# Altium integrated library TI Interface Display.IntLib: 133 symbols (part 2 of 16)
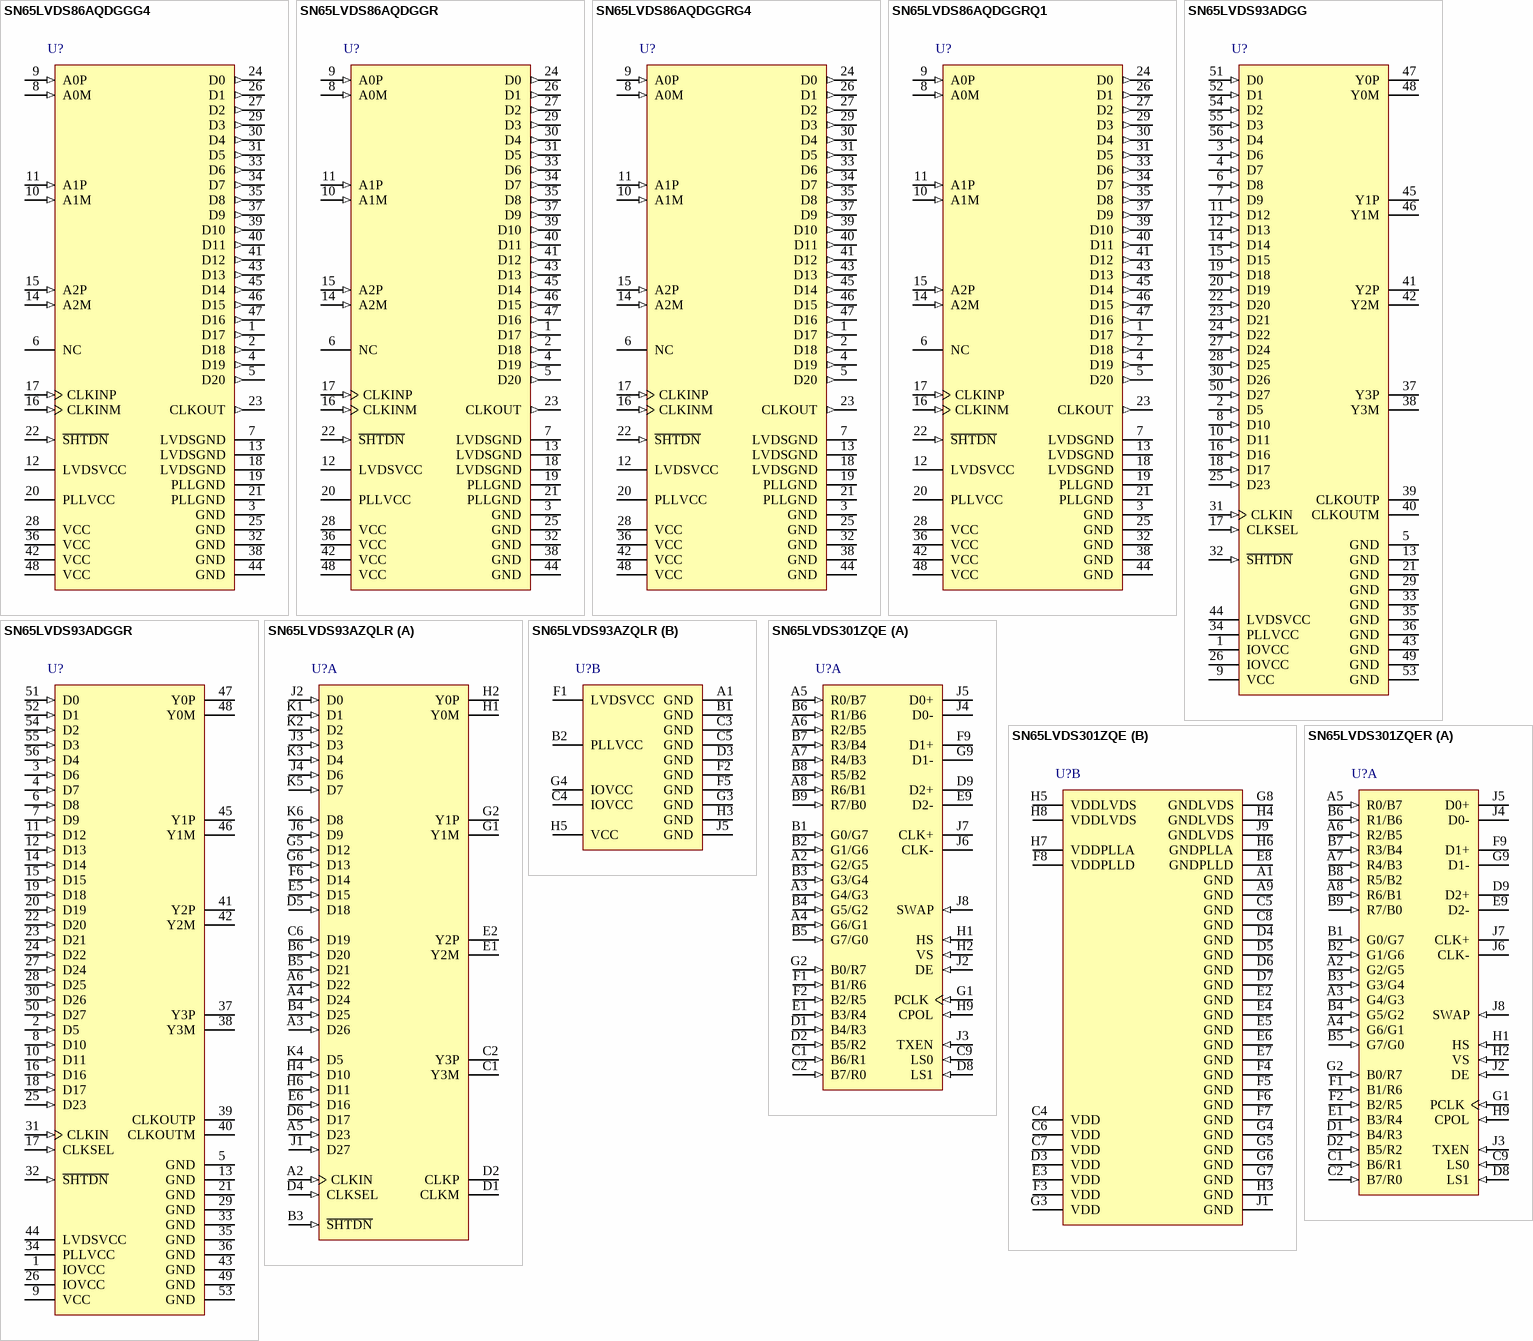
[diagram p15: symbols SN65LVDS86AQDGGG4 to SN65LVDS301ZQER]

## SN65LVDS93ADGG
designator U?
10 - 135 MHz LVDS Serdes Transmitter with 4 Transmitter Channels, 3.3 V, -40 to +85 degC, 56-pin TSSOP (DGG), Green (RoHS & no Sb/Br); Manufacturer: Texas Instruments; PartNumber: SN65LVDS93ADGG; Driver (RL)(Ohms): 100; Driver tpd(ns): 14.2; Number of Parallel Inputs: 28; PLL Frequency(MHz): 10 - 135; Serial Data Transmitter Channels: 4; SubFamily: FlatLink (LVDS for LCD); Supply Voltage(s)(V): 3.3; DatasheetVersion: SLLS992A; PackageVersion: revF, Dec-1997; PackageReference: DGG56; PackageDescription: 56-Pin Plastic Small Outline 0.5 mm Pitch; Supplier 1: Digi-Key; Supplier Part Number 1: 296-25108-5-ND; Supplier 2: Mouser; Supplier Part Number 2: 595-SN65LVDS93ADGG; Eco-Plan: Green (RoHS & no Sb/Br); Type of Line Circuit: LVDS; Mounting Technology: Surface Mount; Code_JEDEC: MO-153; ComponentLink1Description: Datasheet; ComponentLink1URL: http://www.ti.com/general/docs/lit/getliterature.tsp?genericPartNumber=SN65LVDS93A&fileType=pdf; ComponentLink2Description: URL Link1; ComponentLink2URL: SamplesURL:http://www.ti.com/product/sn65lvds93a#samples
footprint DGG56_N (TSSOP, 56-Leads, Body 14x6.1mm, Pitch 0.5mm, IPC Medium Density)
footprint DGG56_L (TSSOP, 56-Leads, Body 14x6.1mm, Pitch 0.5mm, IPC High Density)
footprint DGG56_M (TSSOP, 56-Leads, Body 14x6.1mm, Pitch 0.5mm, IPC Low Density)
pins: 1 IOVCC (power) "I/O supply reference voltage (1.8V up to 3.3V matching the GPU data output signal swing)", 2 D5 (in) "Data inputs; supports 1.8V to 3.3V input voltage selectable by VDD supply. To connect a graphic source successfully to a display,the bit assignment of D[27:0] is critical (and not necessarily intuitive). note:if application (See Datasheet)", 3 D6 (in) "Data inputs; supports 1.8V to 3.3V input voltage selectable by VDD supply. To connect a graphic source successfully to a display,the bit assignment of D[27:0] is critical (and not necessarily intuitive). note:if application (See Datasheet)", 4 D7 (in) "Data inputs; supports 1.8V to 3.3V input voltage selectable by VDD supply. To connect a graphic source successfully to a display,the bit assignment of D[27:0] is critical (and not necessarily intuitive). note:if application (See Datasheet)", 5 GND (power) "Supply Ground for VCC, IOVCC, LVDSVCC, and PLLVCC.", 6 D8 (in) "Data inputs; supports 1.8V to 3.3V input voltage selectable by VDD supply. To connect a graphic source successfully to a display,the bit assignment of D[27:0] is critical (and not necessarily intuitive). note:if application (See Datasheet)", 7 D9 (in) "Data inputs; supports 1.8V to 3.3V input voltage selectable by VDD supply. To connect a graphic source successfully to a display,the bit assignment of D[27:0] is critical (and not necessarily intuitive). note:if application (See Datasheet)", 8 D10 (in) "Data inputs; supports 1.8V to 3.3V input voltage selectable by VDD supply. To connect a graphic source successfully to a display,the bit assignment of D[27:0] is critical (and not necessarily intuitive). note:if application (See Datasheet)", 9 VCC (power) "3.3V digital Supply Voltage", 10 D11 (in) "Data inputs; supports 1.8V to 3.3V input voltage selectable by VDD supply. To connect a graphic source successfully to a display,the bit assignment of D[27:0] is critical (and not necessarily intuitive). note:if application (See Datasheet)", 11 D12 (in) "Data inputs; supports 1.8V to 3.3V input voltage selectable by VDD supply. To connect a graphic source successfully to a display,the bit assignment of D[27:0] is critical (and not necessarily intuitive). note:if application (See Datasheet)", 12 D13 (in) "Data inputs; supports 1.8V to 3.3V input voltage selectable by VDD supply. To connect a graphic source successfully to a display,the bit assignment of D[27:0] is critical (and not necessarily intuitive). note:if application (See Datasheet)", 13 GND (power) "Supply Ground for VCC, IOVCC, LVDSVCC, and PLLVCC", 14 D14 (in) "Data inputs; supports 1.8V to 3.3V input voltage selectable by VDD supply. To connect a graphic source successfully to a display,the bit assignment of D[27:0] is critical (and not necessarily intuitive). note:if application (See Datasheet)", 15 D15 (in) "Data inputs; supports 1.8V to 3.3V input voltage selectable by VDD supply. To connect a graphic source successfully to a display,the bit assignment of D[27:0] is critical (and not necessarily intuitive). note:if application (See Datasheet)", 16 D16 (in) "Data inputs; supports 1.8V to 3.3V input voltage selectable by VDD supply. To connect a graphic source successfully to a display,the bit assignment of D[27:0] is critical (and not necessarily intuitive). note:if application (See Datasheet)", 17 CLKSEL (in) "Selects between rising edge input clock trigger (CLKSEL = VIH) and falling edge input clock trigger(CLKSEL=VIL).", 18 D17 (in) "Data inputs; supports 1.8V to 3.3V input voltage selectable by VDD supply. To connect a graphic source successfully to a display,the bit assignment of D[27:0] is critical (and not necessarily intuitive). note:if application (See Datasheet)", 19 D18 (in) "Data inputs; supports 1.8V to 3.3V input voltage selectable by VDD supply. To connect a graphic source successfully to a display,the bit assignment of D[27:0] is critical (and not necessarily intuitive). note:if application (See Datasheet)", 20 D19 (in) "Data inputs; supports 1.8V to 3.3V input voltage selectable by VDD supply. To connect a graphic source successfully to a display,the bit assignment of D[27:0] is critical (and not necessarily intuitive). note:if application (See Datasheet)", 21 GND (power) "Supply Ground for VCC, IOVCC, LVDSVCC, and PLLVCC.", 22 D20 (in) "Data inputs; supports 1.8V to 3.3V input voltage selectable by VDD supply. To connect a graphic source successfully to a display,the bit assignment of D[27:0] is critical (and not necessarily intuitive). note:if application (See Datasheet)", 23 D21 (in) "Data inputs; supports 1.8V to 3.3V input voltage selectable by VDD supply. To connect a graphic source successfully to a display,the bit assignment of D[27:0] is critical (and not necessarily intuitive). note:if application (See Datasheet)", 24 D22 (in) "Data inputs; supports 1.8V to 3.3V input voltage selectable by VDD supply. To connect a graphic source successfully to a display,the bit assignment of D[27:0] is critical (and not necessarily intuitive). note:if application (See Datasheet)", 25 D23 (in) "Data inputs; supports 1.8V to 3.3V input voltage selectable by VDD supply. To connect a graphic source successfully to a display,the bit assignment of D[27:0] is critical (and not necessarily intuitive). note:if application (See Datasheet)", 26 IOVCC (power) "I/O supply reference voltage (1.8V up to 3.3V matching the GPU data output signal swing)", 27 D24 (in) "Data inputs; supports 1.8V to 3.3V input voltage selectable by VDD supply. To connect a graphic source successfully to a display,the bit assignment of D[27:0] is critical (and not necessarily intuitive). note:if application (See Datasheet)", 28 D25 (in) "Data inputs; supports 1.8V to 3.3V input voltage selectable by VDD supply. To connect a graphic source successfully to a display,the bit assignment of D[27:0] is critical (and not necessarily intuitive). note:if application (See Datasheet)", 29 GND (power) "Supply Ground for VCC, IOVCC, LVDSVCC, and PLLVCC.", 30 D26 (in) "Data inputs; supports 1.8V to 3.3V input voltage selectable by VDD supply. To connect a graphic source successfully to a display,the bit assignment of D[27:0] is critical (and not necessarily intuitive). note:if application (See Datasheet)", 31 CLKIN (in) "Input pixel clock; rising or falling clock polarity is selectable by Control input CLKSEL.", 32 ~{SHTDN} (in) "Device shut down;pull  low (de-assert) to shut down the device (low power, resets all registers) and high (assert)for normal operation.", 33 GND (power) "Supply Ground for VCC, IOVCC, LVDSVCC, and PLLVCC.", 34 PLLVCC (power) "3.3V PLL analog supply", 35 GND (power) "Supply Ground for VCC, IOVCC, LVDSVCC, and PLLVCC", 36 GND (power) "Supply Ground for VCC, IOVCC, LVDSVCC, and PLLVCC", 37 Y3P (hiz) "Differential LVDS Data outputs.Output is high-impedance when S\H\T\D\N\ is pulled low (de-asserted).  Note: if the application only requires 18-bit color, this output can be left open.", 38 Y3M (hiz) "Differential LVDS Data outputs.Output is high-impedance when S\H\T\D\N\ is pulled low (de-asserted).  Note: if the application only requires 18-bit color, this output can be left open.", 39 CLKOUTP (hiz) "Differential LVDS pixel clock output.Output is high-impedance when S\H\T\D\N is pulled low (de-asserted)", 40 CLKOUTM (hiz) "Differential LVDS pixel clock output.Output is high-impedance when S\H\T\D\N is pulled low (de-asserted)", 41 Y2P (hiz) "Differential LVDS data outputs.Outputs are high-impedance when S\H\T\D\N\ is pulled low (de-asserted)", 42 Y2M (hiz) "Differential LVDS data outputs.Outputs are high-impedance when S\H\T\D\N\ is pulled low (de-asserted)", 43 GND (power) "Supply Ground for VCC, IOVCC, LVDSVCC, and PLLVCC.", 44 LVDSVCC (power) "3.3V LVDS output analog supply", 45 Y1P (hiz) "Differential LVDS data outputs.Outputs are high-impedance when S\H\T\D\N\ is pulled low (de-asserted)", 46 Y1M (hiz) "Differential LVDS data outputs.Outputs are high-impedance when S\H\T\D\N\ is pulled low (de-asserted)", 47 Y0P (hiz) "Differential LVDS data outputs.Outputs are high-impedance when S\H\T\D\N\ is pulled low (de-asserted)", 48 Y0M (hiz) "Differential LVDS data outputs.Outputs are high-impedance when S\H\T\D\N\ is pulled low (de-asserted)", 49 GND (power) "Supply Ground for VCC, IOVCC, LVDSVCC, and PLLVCC.", 50 D27 (in) "Data inputs; supports 1.8V to 3.3V input voltage selectable by VDD supply. To connect a graphic source successfully to a display,the bit assignment of D[27:0] is critical (and not necessarily intuitive). note:if application (See Datasheet)", 51 D0 (in) "Data inputs; supports 1.8V to 3.3V input voltage selectable by VDD supply. To connect a graphic source successfully to a display,the bit assignment of D[27:0] is critical (and not necessarily intuitive). note:if application (See Datasheet)", 52 D1 (in) "Data inputs; supports 1.8V to 3.3V input voltage selectable by VDD supply. To connect a graphic source successfully to a display,the bit assignment of D[27:0] is critical (and not necessarily intuitive). note:if application (See Datasheet)", 53 GND (power) "Supply Ground for VCC, IOVCC, LVDSVCC, and PLLVCC.", 54 D2 (in) "Data inputs; supports 1.8V to 3.3V input voltage selectable by VDD supply. To connect a graphic source successfully to a display,the bit assignment of D[27:0] is critical (and not necessarily intuitive). note:if application (See Datasheet)", 55 D3 (in) "Data inputs; supports 1.8V to 3.3V input voltage selectable by VDD supply. To connect a graphic source successfully to a display,the bit assignment of D[27:0] is critical (and not necessarily intuitive). note:if application (See Datasheet)", 56 D4 (in) "Data inputs; supports 1.8V to 3.3V input voltage selectable by VDD supply. To connect a graphic source successfully to a display,the bit assignment of D[27:0] is critical (and not necessarily intuitive). note:if application (See Datasheet)"

## SN65LVDS93ADGGR
designator U?
10 - 135 MHz LVDS Serdes Transmitter with 4 Transmitter Channels, 3.3 V, -40 to +85 degC, 56-pin TSSOP (DGG), Green (RoHS & no Sb/Br); Manufacturer: Texas Instruments; PartNumber: SN65LVDS93ADGGR; Driver (RL)(Ohms): 100; Driver tpd(ns): 14.2; Number of Parallel Inputs: 28; PLL Frequency(MHz): 10 - 135; Serial Data Transmitter Channels: 4; SubFamily: FlatLink (LVDS for LCD); Supply Voltage(s)(V): 3.3; DatasheetVersion: SLLS992A; PackageVersion: revF, Dec-1997; PackageReference: DGG56; PackageDescription: 56-Pin Plastic Small Outline 0.5 mm Pitch; Supplier 1: Digi-Key; Supplier Part Number 1: SN65LVDS93ADGGR-ND; Supplier 2: Mouser; Supplier Part Number 2: 595-SN65LVDS93ADGGR; Eco-Plan: Green (RoHS & no Sb/Br); Type of Line Circuit: LVDS; Mounting Technology: Surface Mount; Code_JEDEC: MO-153; ComponentLink1Description: Datasheet; ComponentLink1URL: http://www.ti.com/general/docs/lit/getliterature.tsp?genericPartNumber=SN65LVDS93A&fileType=pdf; ComponentLink2Description: URL Link1; ComponentLink2URL: SamplesURL:http://www.ti.com/product/sn65lvds93a#samples
footprint DGG56_N (TSSOP, 56-Leads, Body 14x6.1mm, Pitch 0.5mm, IPC Medium Density)
footprint DGG56_L (TSSOP, 56-Leads, Body 14x6.1mm, Pitch 0.5mm, IPC High Density)
footprint DGG56_M (TSSOP, 56-Leads, Body 14x6.1mm, Pitch 0.5mm, IPC Low Density)
pins: 1 IOVCC (power) "I/O supply reference voltage (1.8V up to 3.3V matching the GPU data output signal swing)", 2 D5 (in) "Data inputs; supports 1.8V to 3.3V input voltage selectable by VDD supply. To connect a graphic source successfully to a display,the bit assignment of D[27:0] is critical (and not necessarily intuitive). note:if application (See Datasheet)", 3 D6 (in) "Data inputs; supports 1.8V to 3.3V input voltage selectable by VDD supply. To connect a graphic source successfully to a display,the bit assignment of D[27:0] is critical (and not necessarily intuitive). note:if application (See Datasheet)", 4 D7 (in) "Data inputs; supports 1.8V to 3.3V input voltage selectable by VDD supply. To connect a graphic source successfully to a display,the bit assignment of D[27:0] is critical (and not necessarily intuitive). note:if application (See Datasheet)", 5 GND (power) "Supply Ground for VCC, IOVCC, LVDSVCC, and PLLVCC.", 6 D8 (in) "Data inputs; supports 1.8V to 3.3V input voltage selectable by VDD supply. To connect a graphic source successfully to a display,the bit assignment of D[27:0] is critical (and not necessarily intuitive). note:if application (See Datasheet)", 7 D9 (in) "Data inputs; supports 1.8V to 3.3V input voltage selectable by VDD supply. To connect a graphic source successfully to a display,the bit assignment of D[27:0] is critical (and not necessarily intuitive). note:if application (See Datasheet)", 8 D10 (in) "Data inputs; supports 1.8V to 3.3V input voltage selectable by VDD supply. To connect a graphic source successfully to a display,the bit assignment of D[27:0] is critical (and not necessarily intuitive). note:if application (See Datasheet)", 9 VCC (power) "3.3V digital Supply Voltage", 10 D11 (in) "Data inputs; supports 1.8V to 3.3V input voltage selectable by VDD supply. To connect a graphic source successfully to a display,the bit assignment of D[27:0] is critical (and not necessarily intuitive). note:if application (See Datasheet)", 11 D12 (in) "Data inputs; supports 1.8V to 3.3V input voltage selectable by VDD supply. To connect a graphic source successfully to a display,the bit assignment of D[27:0] is critical (and not necessarily intuitive). note:if application (See Datasheet)", 12 D13 (in) "Data inputs; supports 1.8V to 3.3V input voltage selectable by VDD supply. To connect a graphic source successfully to a display,the bit assignment of D[27:0] is critical (and not necessarily intuitive). note:if application (See Datasheet)", 13 GND (power) "Supply Ground for VCC, IOVCC, LVDSVCC, and PLLVCC", 14 D14 (in) "Data inputs; supports 1.8V to 3.3V input voltage selectable by VDD supply. To connect a graphic source successfully to a display,the bit assignment of D[27:0] is critical (and not necessarily intuitive). note:if application (See Datasheet)", 15 D15 (in) "Data inputs; supports 1.8V to 3.3V input voltage selectable by VDD supply. To connect a graphic source successfully to a display,the bit assignment of D[27:0] is critical (and not necessarily intuitive). note:if application (See Datasheet)", 16 D16 (in) "Data inputs; supports 1.8V to 3.3V input voltage selectable by VDD supply. To connect a graphic source successfully to a display,the bit assignment of D[27:0] is critical (and not necessarily intuitive). note:if application (See Datasheet)", 17 CLKSEL (in) "Selects between rising edge input clock trigger (CLKSEL = VIH) and falling edge input clock trigger(CLKSEL=VIL).", 18 D17 (in) "Data inputs; supports 1.8V to 3.3V input voltage selectable by VDD supply. To connect a graphic source successfully to a display,the bit assignment of D[27:0] is critical (and not necessarily intuitive). note:if application (See Datasheet)", 19 D18 (in) "Data inputs; supports 1.8V to 3.3V input voltage selectable by VDD supply. To connect a graphic source successfully to a display,the bit assignment of D[27:0] is critical (and not necessarily intuitive). note:if application (See Datasheet)", 20 D19 (in) "Data inputs; supports 1.8V to 3.3V input voltage selectable by VDD supply. To connect a graphic source successfully to a display,the bit assignment of D[27:0] is critical (and not necessarily intuitive). note:if application (See Datasheet)", 21 GND (power) "Supply Ground for VCC, IOVCC, LVDSVCC, and PLLVCC.", 22 D20 (in) "Data inputs; supports 1.8V to 3.3V input voltage selectable by VDD supply. To connect a graphic source successfully to a display,the bit assignment of D[27:0] is critical (and not necessarily intuitive). note:if application (See Datasheet)", 23 D21 (in) "Data inputs; supports 1.8V to 3.3V input voltage selectable by VDD supply. To connect a graphic source successfully to a display,the bit assignment of D[27:0] is critical (and not necessarily intuitive). note:if application (See Datasheet)", 24 D22 (in) "Data inputs; supports 1.8V to 3.3V input voltage selectable by VDD supply. To connect a graphic source successfully to a display,the bit assignment of D[27:0] is critical (and not necessarily intuitive). note:if application (See Datasheet)", 25 D23 (in) "Data inputs; supports 1.8V to 3.3V input voltage selectable by VDD supply. To connect a graphic source successfully to a display,the bit assignment of D[27:0] is critical (and not necessarily intuitive). note:if application (See Datasheet)", 26 IOVCC (power) "I/O supply reference voltage (1.8V up to 3.3V matching the GPU data output signal swing)", 27 D24 (in) "Data inputs; supports 1.8V to 3.3V input voltage selectable by VDD supply. To connect a graphic source successfully to a display,the bit assignment of D[27:0] is critical (and not necessarily intuitive). note:if application (See Datasheet)", 28 D25 (in) "Data inputs; supports 1.8V to 3.3V input voltage selectable by VDD supply. To connect a graphic source successfully to a display,the bit assignment of D[27:0] is critical (and not necessarily intuitive). note:if application (See Datasheet)", 29 GND (power) "Supply Ground for VCC, IOVCC, LVDSVCC, and PLLVCC.", 30 D26 (in) "Data inputs; supports 1.8V to 3.3V input voltage selectable by VDD supply. To connect a graphic source successfully to a display,the bit assignment of D[27:0] is critical (and not necessarily intuitive). note:if application (See Datasheet)", 31 CLKIN (in) "Input pixel clock; rising or falling clock polarity is selectable by Control input CLKSEL.", 32 ~{SHTDN} (in) "Device shut down;pull  low (de-assert) to shut down the device (low power, resets all registers) and high (assert)for normal operation.", 33 GND (power) "Supply Ground for VCC, IOVCC, LVDSVCC, and PLLVCC.", 34 PLLVCC (power) "3.3V PLL analog supply", 35 GND (power) "Supply Ground for VCC, IOVCC, LVDSVCC, and PLLVCC", 36 GND (power) "Supply Ground for VCC, IOVCC, LVDSVCC, and PLLVCC", 37 Y3P (hiz) "Differential LVDS Data outputs.Output is high-impedance when S\H\T\D\N\ is pulled low (de-asserted).  Note: if the application only requires 18-bit color, this output can be left open.", 38 Y3M (hiz) "Differential LVDS Data outputs.Output is high-impedance when S\H\T\D\N\ is pulled low (de-asserted).  Note: if the application only requires 18-bit color, this output can be left open.", 39 CLKOUTP (hiz) "Differential LVDS pixel clock output.Output is high-impedance when S\H\T\D\N is pulled low (de-asserted)", 40 CLKOUTM (hiz) "Differential LVDS pixel clock output.Output is high-impedance when S\H\T\D\N is pulled low (de-asserted)", 41 Y2P (hiz) "Differential LVDS data outputs.Outputs are high-impedance when S\H\T\D\N\ is pulled low (de-asserted)", 42 Y2M (hiz) "Differential LVDS data outputs.Outputs are high-impedance when S\H\T\D\N\ is pulled low (de-asserted)", 43 GND (power) "Supply Ground for VCC, IOVCC, LVDSVCC, and PLLVCC.", 44 LVDSVCC (power) "3.3V LVDS output analog supply", 45 Y1P (hiz) "Differential LVDS data outputs.Outputs are high-impedance when S\H\T\D\N\ is pulled low (de-asserted)", 46 Y1M (hiz) "Differential LVDS data outputs.Outputs are high-impedance when S\H\T\D\N\ is pulled low (de-asserted)", 47 Y0P (hiz) "Differential LVDS data outputs.Outputs are high-impedance when S\H\T\D\N\ is pulled low (de-asserted)", 48 Y0M (hiz) "Differential LVDS data outputs.Outputs are high-impedance when S\H\T\D\N\ is pulled low (de-asserted)", 49 GND (power) "Supply Ground for VCC, IOVCC, LVDSVCC, and PLLVCC.", 50 D27 (in) "Data inputs; supports 1.8V to 3.3V input voltage selectable by VDD supply. To connect a graphic source successfully to a display,the bit assignment of D[27:0] is critical (and not necessarily intuitive). note:if application (See Datasheet)", 51 D0 (in) "Data inputs; supports 1.8V to 3.3V input voltage selectable by VDD supply. To connect a graphic source successfully to a display,the bit assignment of D[27:0] is critical (and not necessarily intuitive). note:if application (See Datasheet)", 52 D1 (in) "Data inputs; supports 1.8V to 3.3V input voltage selectable by VDD supply. To connect a graphic source successfully to a display,the bit assignment of D[27:0] is critical (and not necessarily intuitive). note:if application (See Datasheet)", 53 GND (power) "Supply Ground for VCC, IOVCC, LVDSVCC, and PLLVCC.", 54 D2 (in) "Data inputs; supports 1.8V to 3.3V input voltage selectable by VDD supply. To connect a graphic source successfully to a display,the bit assignment of D[27:0] is critical (and not necessarily intuitive). note:if application (See Datasheet)", 55 D3 (in) "Data inputs; supports 1.8V to 3.3V input voltage selectable by VDD supply. To connect a graphic source successfully to a display,the bit assignment of D[27:0] is critical (and not necessarily intuitive). note:if application (See Datasheet)", 56 D4 (in) "Data inputs; supports 1.8V to 3.3V input voltage selectable by VDD supply. To connect a graphic source successfully to a display,the bit assignment of D[27:0] is critical (and not necessarily intuitive). note:if application (See Datasheet)"

## SN65LVDS93AZQLR
designator U?
10 - 135 MHz LVDS Serdes Transmitter with 4 Transmitter Channels, 3.3 V, -40 to +85 degC, 56-pin BGA MICROSTARJUNIOR (ZQL), Green (RoHS & no Sb/Br); Manufacturer: Texas Instruments; PartNumber: SN65LVDS93AZQLR; Driver (RL)(Ohms): 100; Driver tpd(ns): 14.2; Number of Parallel Inputs: 28; PLL Frequency(MHz): 10 - 135; Serial Data Transmitter Channels: 4; SubFamily: FlatLink (LVDS for LCD); Supply Voltage(s)(V): 3.3; DatasheetVersion: SLLS992A; PackageVersion: revH, Nov-2011; PackageReference: ZQL56; PackageDescription: 56-Ball Plastic Ball Grid Array, 7 x 4.5 mm Body, 0.65 mm Pitch; Supplier 1: Digi-Key; Supplier Part Number 1: 296-25110-2-ND; Supplier 2: Digi-Key; Supplier Part Number 2: 296-25110-1-ND; Supplier 3: Digi-Key; Supplier Part Number 3: 296-25110-6-ND; Supplier 4: Newark; Supplier Part Number 4: 50R7863; Supplier 5: Mouser; Supplier Part Number 5: 595-SN65LVDS93AZQLR; Eco-Plan: Green (RoHS & no Sb/Br); Type of Line Circuit: LVDS; Mounting Technology: Surface Mount; Code_JEDEC: MO-285-BA-2; ComponentLink1Description: Datasheet; ComponentLink1URL: http://www.ti.com/general/docs/lit/getliterature.tsp?genericPartNumber=SN65LVDS93A&fileType=pdf; ComponentLink2Description: URL Link1; ComponentLink2URL: SamplesURL:http://www.ti.com/product/sn65lvds93a#samples
footprint ZQL56 (BGA, 56-Leads, Body 7x4.5mm, Pitch 0.65mm)
part A pins: A2 CLKIN (in) "Input pixel clock; rising or falling clock polarity is selectable by Control input CLKSEL", A3 D26 (in) "Data inputs; supports 1.8V to 3.3V input voltage selectable by VDD supply. To connect a graphic source successfully to a display,the bit assignment of D[27:0] is critical (and not necessarily intuitive). note:if application (See Datasheet)", A4 D24 (in) "Data inputs; supports 1.8V to 3.3V input voltage selectable by VDD supply. To connect a graphic source successfully to a display,the bit assignment of D[27:0] is critical (and not necessarily intuitive). note:if application (See Datasheet)", A5 D23 (in) "Data inputs; supports 1.8V to 3.3V input voltage selectable by VDD supply. To connect a graphic source successfully to a display,the bit assignment of D[27:0] is critical (and not necessarily intuitive). note:if application (See Datasheet)", A6 D22 (in) "Data inputs; supports 1.8V to 3.3V input voltage selectable by VDD supply. To connect a graphic source successfully to a display,the bit assignment of D[27:0] is critical (and not necessarily intuitive). note:if application (See Datasheet)", B3 ~{SHTDN} (in) "Device shut down;pull  low (de-assert) to shut down the device (low power, resets all registers) and high (assert)for normal operation.", B4 D25 (in) "Data inputs; supports 1.8V to 3.3V input voltage selectable by VDD supply. To connect a graphic source successfully to a display,the bit assignment of D[27:0] is critical (and not necessarily intuitive). note:if application (See Datasheet)", B5 D21 (in) "Data inputs; supports 1.8V to 3.3V input voltage selectable by VDD supply. To connect a graphic source successfully to a display,the bit assignment of D[27:0] is critical (and not necessarily intuitive). note:if application (See Datasheet)", B6 D20 (in) "Data inputs; supports 1.8V to 3.3V input voltage selectable by VDD supply. To connect a graphic source successfully to a display,the bit assignment of D[27:0] is critical (and not necessarily intuitive). note:if application (See Datasheet)", C1 Y3M (hiz) "Differential LVDS Data outputs.Output is high-impedance when S\H\T\D\N\ is pulled low (de-asserted).  Note: if the application only requires 18-bit color, this output can be left open", C2 Y3P (hiz) "Differential LVDS Data outputs.Output is high-impedance when S\H\T\D\N\ is pulled low (de-asserted).  Note: if the application only requires 18-bit color, this output can be left open", C6 D19 (in) "Data inputs; supports 1.8V to 3.3V input voltage selectable by VDD supply. To connect a graphic source successfully to a display,the bit assignment of D[27:0] is critical (and not necessarily intuitive). note:if application (See Datasheet)", D1 CLKM (hiz) "Differential LVDS pixel clock output.Output is high-impedance when S\H\T\D\N is pulled low (de-asserted)", D2 CLKP (hiz) "Differential LVDS pixel clock output.Output is high-impedance when S\H\T\D\N is pulled low (de-asserted)", D4 CLKSEL (in) "Selects between rising edge input clock trigger (CLKSEL = VIH) and falling edge input clock trigger(CLKSEL=VIL).", D5 D18 (in) "Data inputs; supports 1.8V to 3.3V input voltage selectable by VDD supply. To connect a graphic source successfully to a display,the bit assignment of D[27:0] is critical (and not necessarily intuitive). note:if application (See Datasheet)", D6 D17 (in) "Data inputs; supports 1.8V to 3.3V input voltage selectable by VDD supply. To connect a graphic source successfully to a display,the bit assignment of D[27:0] is critical (and not necessarily intuitive). note:if application (See Datasheet)", E1 Y2M (hiz) "Differential LVDS data outputs.Outputs are high-impedance when S\H\T\D\N\ is pulled low (de-asserted)", E2 Y2P (hiz) "Differential LVDS data outputs.Outputs are high-impedance when S\H\T\D\N\ is pulled low (de-asserted)", E5 D15 (in) "Data inputs; supports 1.8V to 3.3V input voltage selectable by VDD supply. To connect a graphic source successfully to a display,the bit assignment of D[27:0] is critical (and not necessarily intuitive). note:if application (See Datasheet)", E6 D16 (in) "Data inputs; supports 1.8V to 3.3V input voltage selectable by VDD supply. To connect a graphic source successfully to a display,the bit assignment of D[27:0] is critical (and not necessarily intuitive). note:if application (See Datasheet)", F6 D14 (in) "Data inputs; supports 1.8V to 3.3V input voltage selectable by VDD supply. To connect a graphic source successfully to a display,the bit assignment of D[27:0] is critical (and not necessarily intuitive). note:if application (See Datasheet)", G1 Y1M (hiz) "Differential LVDS data outputs.Outputs are high-impedance when S\H\T\D\N\ is pulled low (de-asserted)", G2 Y1P (hiz) "Differential LVDS data outputs.Outputs are high-impedance when S\H\T\D\N\ is pulled low (de-asserted)", G5 D12 (in) "Data inputs; supports 1.8V to 3.3V input voltage selectable by VDD supply. To connect a graphic source successfully to a display,the bit assignment of D[27:0] is critical (and not necessarily intuitive). note:if application (See Datasheet)", G6 D13 (in) "Data inputs; supports 1.8V to 3.3V input voltage selectable by VDD supply. To connect a graphic source successfully to a display,the bit assignment of D[27:0] is critical (and not necessarily intuitive). note:if application (See Datasheet)", H1 Y0M (hiz) "Differential LVDS pixel clock output. Output is high-impedance when S\H\T\D\N\ is pulled low (de-asserted)", H2 Y0P (hiz) "Differential LVDS pixel clock output. Output is high-impedance when S\H\T\D\N\ is pulled low (de-asserted)", H4 D10 (in) "Data inputs; supports 1.8V to 3.3V input voltage selectable by VDD supply. To connect a graphic source successfully to a display,the bit assignment of D[27:0] is critical (and not necessarily intuitive). note:if application (See Datasheet)", H6 D11 (in) "Data inputs; supports 1.8V to 3.3V input voltage selectable by VDD supply. To connect a graphic source successfully to a display,the bit assignment of D[27:0] is critical (and not necessarily intuitive). note:if application (See Datasheet)", J1 D27 (in) "Data inputs; supports 1.8V to 3.3V input voltage selectable by VDD supply. To connect a graphic source successfully to a display,the bit assignment of D[27:0] is critical (and not necessarily intuitive). note:if application (See Datasheet)", J2 D0 (in) "Data inputs; supports 1.8V to 3.3V input voltage selectable by VDD supply. To connect a graphic source successfully to a display,the bit assignment of D[27:0] is critical (and not necessarily intuitive). note:if application (See Datasheet)", J3 D3 (in) "Data inputs; supports 1.8V to 3.3V input voltage selectable by VDD supply. To connect a graphic source successfully to a display,the bit assignment of D[27:0] is critical (and not necessarily intuitive). note:if application (See Datasheet)", J4 D6 (in) "Data inputs; supports 1.8V to 3.3V input voltage selectable by VDD supply. To connect a graphic source successfully to a display,the bit assignment of D[27:0] is critical (and not necessarily intuitive). note:if application (See Datasheet)", J6 D9 (in) "Data inputs; supports 1.8V to 3.3V input voltage selectable by VDD supply. To connect a graphic source successfully to a display,the bit assignment of D[27:0] is critical (and not necessarily intuitive). note:if application (See Datasheet)", K1 D1 (in) "Data inputs; supports 1.8V to 3.3V input voltage selectable by VDD supply. To connect a graphic source successfully to a display,the bit assignment of D[27:0] is critical (and not necessarily intuitive). note:if application (See Datasheet)", K2 D2 (in) "Data inputs; supports 1.8V to 3.3V input voltage selectable by VDD supply. To connect a graphic source successfully to a display,the bit assignment of D[27:0] is critical (and not necessarily intuitive). note:if application (See Datasheet)", K3 D4 (in) "Data inputs; supports 1.8V to 3.3V input voltage selectable by VDD supply. To connect a graphic source successfully to a display,the bit assignment of D[27:0] is critical (and not necessarily intuitive). note:if application (See Datasheet)", K4 D5 (in) "Data inputs; supports 1.8V to 3.3V input voltage selectable by VDD supply. To connect a graphic source successfully to a display,the bit assignment of D[27:0] is critical (and not necessarily intuitive). note:if application (See Datasheet)", K5 D7 (in) "Data inputs; supports 1.8V to 3.3V input voltage selectable by VDD supply. To connect a graphic source successfully to a display,the bit assignment of D[27:0] is critical (and not necessarily intuitive). note:if application (See Datasheet)", K6 D8 (in) "Data inputs; supports 1.8V to 3.3V input voltage selectable by VDD supply. To connect a graphic source successfully to a display,the bit assignment of D[27:0] is critical (and not necessarily intuitive). note:if application (See Datasheet)"
part B pins: A1 GND (power) "Supply Ground for VCC, IOVCC, LVDSVCC, and PLLVCC", B1 GND (power) "Supply Ground for VCC, IOVCC, LVDSVCC, and PLLVCC.", B2 PLLVCC (power) "3.3V PLL analog supply", C3 GND (power) "Supply Ground for VCC, IOVCC, LVDSVCC, and PLLVCC", C4 IOVCC (power) "I/O supply reference voltage (1.8V up to 3.3V matching the GPU data output signal swing)", C5 GND (power) "Supply Ground for VCC, IOVCC, LVDSVCC, and PLLVCC.", D3 GND (power) "Supply Ground for VCC, IOVCC, LVDSVCC, and PLLVCC.", F1 LVDSVCC (power) "3.3V LVDS output analog supply", F2 GND (power) "Supply Ground for VCC, IOVCC, LVDSVCC, and PLLVCC.", F5 GND (power) "Supply Ground for VCC, IOVCC, LVDSVCC, and PLLVCC.", G3 GND (power) "Supply Ground for VCC, IOVCC, LVDSVCC, and PLLVCC.", G4 IOVCC (power) "I/O supply reference voltage (1.8V up to 3.3V matching the GPU data output signal swing)", H3 GND (power) "Supply Ground for VCC, IOVCC, LVDSVCC, and PLLVCC.", H5 VCC (power) "3.3V digital Supply Voltage", J5 GND (power) "Supply Ground for VCC, IOVCC, LVDSVCC, and PLLVCC."

## SN65LVDS301ZQE
designator U?
1755 MB/s Programmable 27-Bit Display Serial Interface Transmitter with 3 Transmitter Channels, 1.8 V, -40 to +85 degC, 80-pin BGA MICROSTAR JUNIOR (ZQE), Green (RoHS & no Sb/Br); Manufacturer: Texas Instruments; PartNumber: SN65LVDS301ZQE; Data Throughput(MB/s): 1755; Number of Parallel Inputs: 27; PLL Frequency(MHz): 4 - 65; Serial Data Transmitter Channels: 3; SubFamily: FlatLink (LVDS for LCD); Supply Voltage(s)(V): 1.8; Type of Line Circuit: subLVDS; DatasheetVersion: SLLS681C; PackageVersion: revF, Jul-2011; PackageReference: ZQE80; PackageDescription: 80-Ball Plastic Ball Grid Array, 5 x 5 mm Body, 0.5 mm Pitch; Supplier 1: Digi-Key; Supplier Part Number 1: 296-19737-ND; Supplier 2: Newark; Supplier Part Number 2: 88K6609; Supplier 3: Mouser; Supplier Part Number 3: 595-SN65LVDS301ZQE; Eco-Plan: Green (RoHS & no Sb/Br); Mounting Technology: Surface Mount; Code_JEDEC: MO-225; ComponentLink1Description: Datasheet; ComponentLink1URL: http://www.ti.com/lit/ds/symlink/sn65lvds301.pdf; ComponentLink2Description: URL Link1; ComponentLink2URL: SamplesURL:http://www.ti.com/product/sn65lvds301#samples
footprint ZQE80 (BGA, 80-Leads, Body 5x5mm, Pitch 0.5mm)
part A pins: A2 G2/G5 (in) "pin assignment depends on SWAP pin setting", A3 G4/G3 (in) "pin assignment depends on SWAP pin setting", A4 G6/G1 (in) "pin assignment depends on SWAP pin setting", A5 R0/B7 (in) "pin assignment depends on SWAP pin setting", A6 R2/B5 (in) "pin assignment depends on SWAP pin setting", A7 R4/B3 (in) "pin assignment depends on SWAP pin setting", A8 R6/B1 (in) "pin assignment depends on SWAP pin setting", B1 G0/G7 (in) "pin assignment depends on SWAP pin setting", B2 G1/G6 (in) "pin assignment depends on SWAP pin setting", B3 G3/G4 (in) "pin assignment depends on SWAP pin setting", B4 G5/G2 (in) "pin assignment depends on SWAP pin setting", B5 G7/G0 (in) "pin assignment depends on SWAP pin setting", B6 R1/B6 (in) "pin assignment depends on SWAP pin setting", B7 R3/B4 (in) "pin assignment depends on SWAP pin setting", B8 R5/B2 (in) "pin assignment depends on SWAP pin setting", B9 R7/B0 (in) "pin assignment depends on SWAP pin setting", C1 B6/R1 (in) "pin assignment depends on SWAP pin setting", C2 B7/R0 (in) "pin assignment depends on SWAP pin setting", C9 LS0 (in) "Link Select (Determines active SubLVDS Data Links and PLL Range)", D1 B4/R3 (in) "pin assignment depends on SWAP pin setting", D2 B5/R2 (in) "pin assignment depends on SWAP pin setting", D8 LS1 (in) "Link Select (Determines active SubLVDS Data Links and PLL Range)", D9 D2+ (hiz) "SubLVDS Data Link (active during normal operation when LS0 = low and LS1 = high,high-impedance when LS1 = low)", E1 B3/R4 (in) "pin assignment depends on SWAP pin setting", E9 D2- (hiz) "SubLVDS Data Link (active during normal operation when LS0 = low and LS1 = high,high-impedance when LS1 = low)", F1 B1/R6 (in) "pin assignment depends on SWAP pin setting", F2 B2/R5 (in) "pin assignment depends on SWAP pin setting", F9 D1+ (hiz) "SubLVDS Data Link (active during normal operation when LS0 = high and LS1 = low, or LS0 = low and LS1=high; high impedance if LS0 = LS1 = low)", G1 PCLK (in) "Input Pixel Clock; rising or falling clock polarity is selected by control input CPOL", G2 B0/R7 (in) "pin assignment depends on SWAP pin setting", G9 D1- (hiz) "SubLVDS Data Link (active during normal operation when LS0 = high and LS1 = low, or LS0 = low and LS1=high; high impedance if LS0 = LS1 = low)", H1 HS (in) "Horizontal Sync", H2 VS (in) "Vertical Sync", H9 CPOL (in) "Input Clock Polarity Selection 0 - rising edge clocking1 - falling edge clocking", J2 DE (in) "Data Enable", J3 TXEN (in) "Disables the CMOS Drivers and Turns Off the PLL, putting device in shutdown mode 1 - Transmitter enabled 0 - Transmitter disabled", J4 D0- (hiz) "SubLVDS Data Link (active during normal operation)", J5 D0+ (hiz) "SubLVDS Data Link (active during normal operation)", J6 CLK- (hiz) "SubLVDS output Clock; clock polarity is fixed", J7 CLK+ (hiz) "SubLVDS output Clock; clock polarity is fixed", J8 SWAP (in) "Bus Swap swaps the bus pins to allow device placement on top or bottom of pcb. See pinout drawing for pin assignments."
part B pins: A1 GND (power) "Supply Ground", A9 GND (power) "Supply Ground", C4 VDD (power) "Supply Voltage", C5 GND (power) "Supply Ground", C6 VDD (power) "Supply Voltage", C7 VDD (power) "Supply Voltage", C8 GND (power) "Supply Ground", D3 VDD (power) "Supply Voltage", D4 GND (power) "Supply Ground", D5 GND (power) "Supply Ground", D6 GND (power) "Supply Ground", D7 GND (power) "Supply Ground", E2 GND (power) "Supply Ground", E3 VDD (power) "Supply Voltage", E4 GND (power) "Supply Ground", E5 GND (power) "Supply Ground", E6 GND (power) "Supply Ground", E7 GND (power) "Supply Ground", E8 GNDPLLD (power) "PLL digital GND", F3 VDD (power) "Supply Voltage", F4 GND (power) "Supply Ground", F5 GND (power) "Supply Ground", F6 GND (power) "Supply Ground", F7 GND (power) "Supply Ground", F8 VDDPLLD (power) "PLL analog supply Voltage", G3 VDD (power) "Supply Voltage", G4 GND (power) "Supply Ground", G5 GND (power) "Supply Ground", G6 GND (power) "Supply Ground", G7 GND (power) "Supply Ground", G8 GNDLVDS (power) "SubLVDS Ground", H3 GND (power) "Supply Ground", H4 GNDLVDS (power) "SubLVDS Ground", H5 VDDLVDS (power) "SubLVDS I/O supply Voltage", H6 GNDPLLA (power) "PLL analog GND", H7 VDDPLLA (power) "PLL analog supply Voltage", H8 VDDLVDS (power) "SubLVDS I/O supply Voltage", J1 GND (power) "Supply Ground", J9 GNDLVDS (power) "SubLVDS Ground"

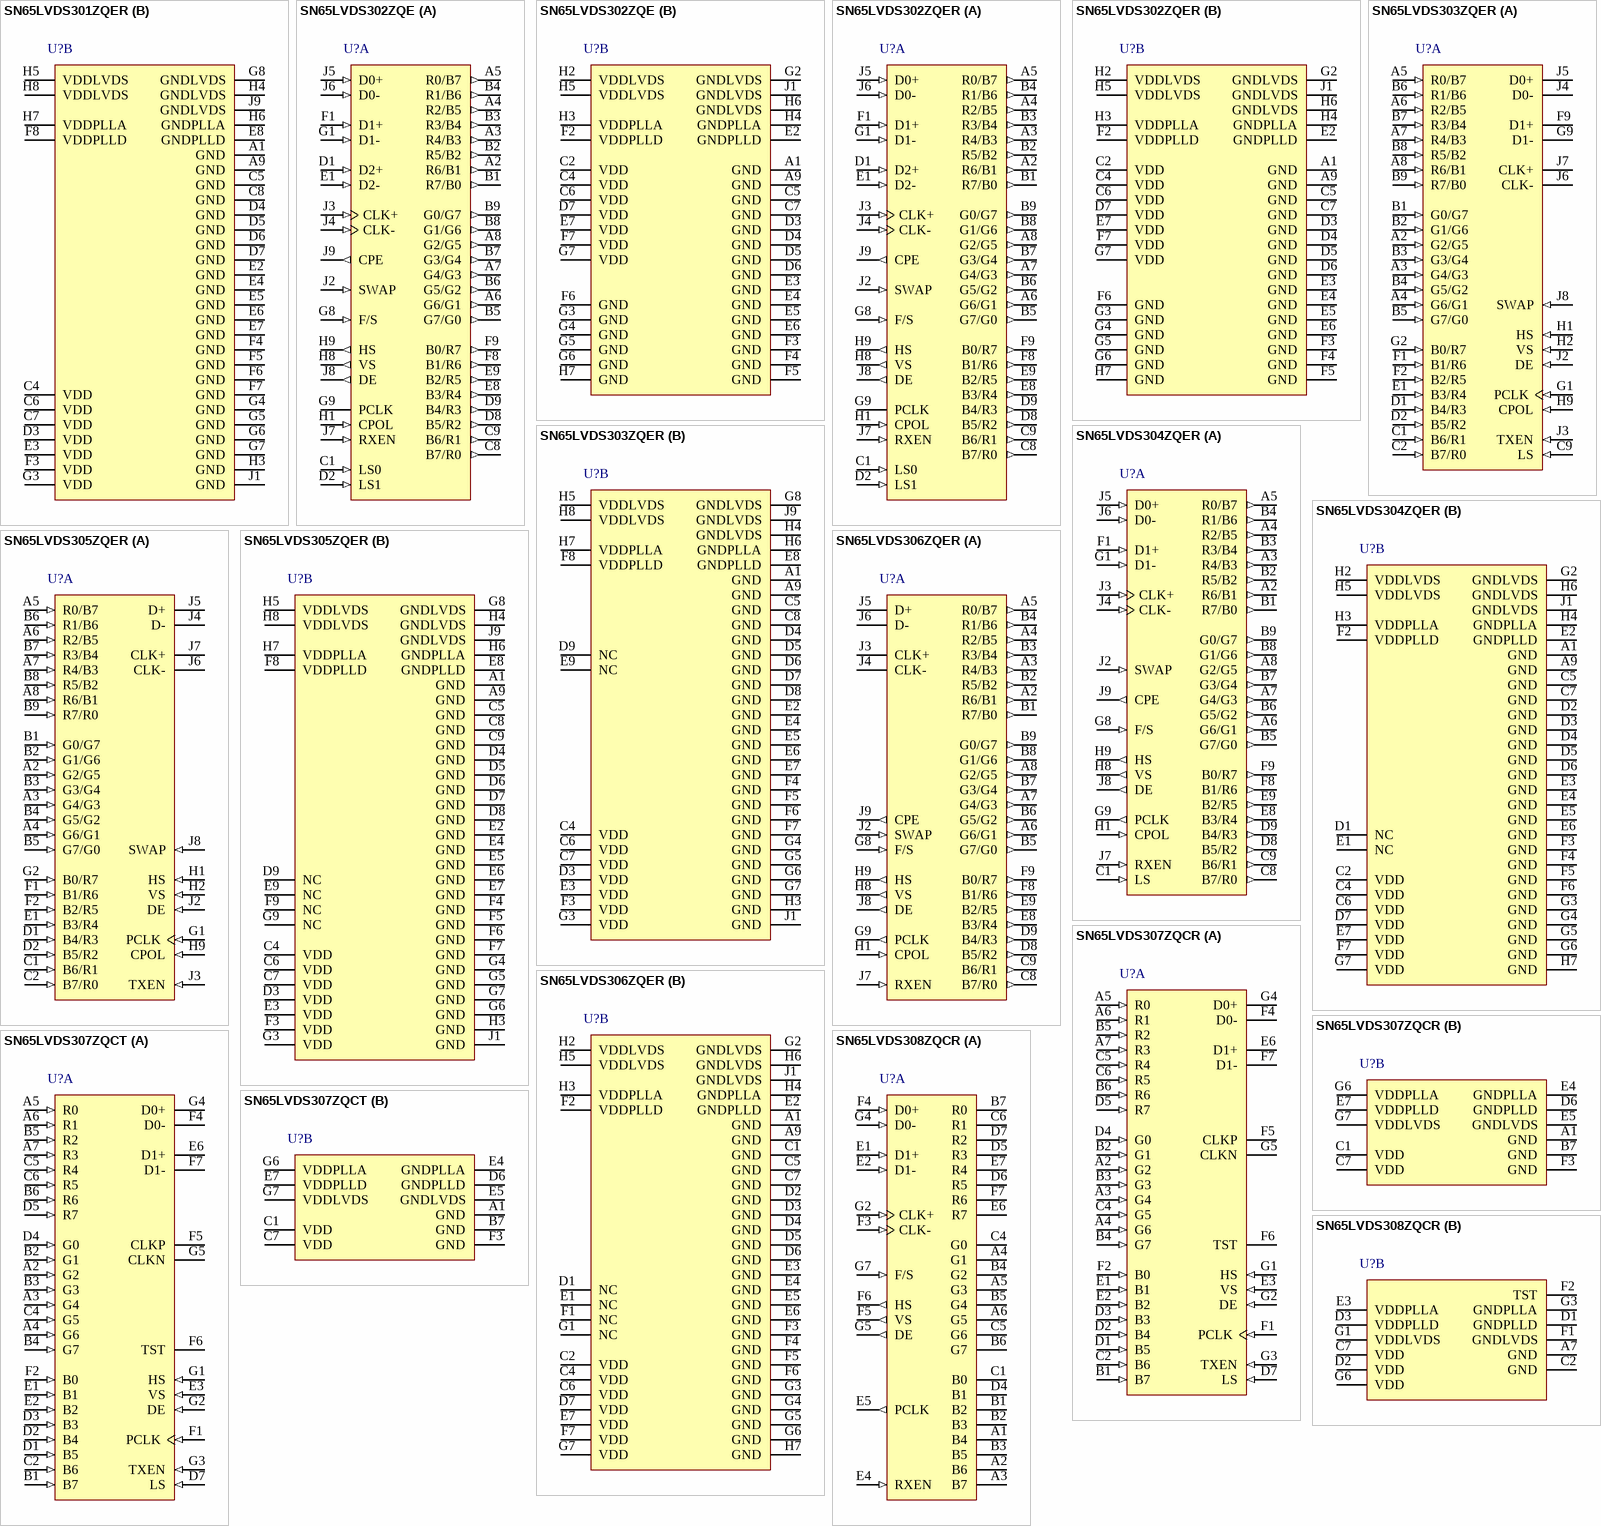
[diagram p2: symbols SN65LVDS301ZQER to SN65LVDS308ZQCR]

## SN65LVDS301ZQER
designator U?
1755 MB/s Programmable 27-Bit Display Serial Interface Transmitter with 3 Receiver Channels, 1.8 V, -40 to +85 degC, 80-pin BGAMICROSTARJUNIOR (ZQE), Green (RoHS & no Sb/Br); Manufacturer: Texas Instruments; PartNumber: SN65LVDS301ZQER; Data Throughput(MB/s): 1755; Number of Parallel Inputs: 27; PLL Frequency(MHz): 4 - 65; Serial Data Transmitter Channels: 3; SubFamily: FlatLink (LVDS for LCD); Supply Voltage(s)(V): 1.8; Type of Line Circuit: subLVDS; DatasheetVersion: SLLS681C; PackageVersion: revF, Jul-2011; PackageReference: ZQE80; PackageDescription: 80-Ball Plastic Ball Grid Array, 5 x 5 mm Body, 0.5 mm Pitch; Supplier 1: Digi-Key; Supplier Part Number 1: 296-21491-2-ND; Supplier 2: Digi-Key; Supplier Part Number 2: 296-21491-1-ND; Supplier 3: Newark; Supplier Part Number 3: 88K6610; Supplier 4: Mouser; Supplier Part Number 4: 595-SN65LVDS301ZQER; Eco-Plan: Green (RoHS & no Sb/Br); Mounting Technology: Surface Mount; Code_JEDEC: MO-225; ComponentLink1Description: Datasheet; ComponentLink1URL: http://www.ti.com/lit/ds/symlink/sn65lvds301.pdf; ComponentLink2Description: URL Link1; ComponentLink2URL: SamplesURL:http://www.ti.com/product/sn65lvds301#samples
footprint ZQE80 (BGA, 80-Leads, Body 5x5mm, Pitch 0.5mm)
part A pins: A2 G2/G5 (in) "pin assignment depends on SWAP pin setting", A3 G4/G3 (in) "pin assignment depends on SWAP pin setting", A4 G6/G1 (in) "pin assignment depends on SWAP pin setting", A5 R0/B7 (in) "pin assignment depends on SWAP pin setting", A6 R2/B5 (in) "pin assignment depends on SWAP pin setting", A7 R4/B3 (in) "pin assignment depends on SWAP pin setting", A8 R6/B1 (in) "pin assignment depends on SWAP pin setting", B1 G0/G7 (in) "pin assignment depends on SWAP pin setting", B2 G1/G6 (in) "pin assignment depends on SWAP pin setting", B3 G3/G4 (in) "pin assignment depends on SWAP pin setting", B4 G5/G2 (in) "pin assignment depends on SWAP pin setting", B5 G7/G0 (in) "pin assignment depends on SWAP pin setting", B6 R1/B6 (in) "pin assignment depends on SWAP pin setting", B7 R3/B4 (in) "pin assignment depends on SWAP pin setting", B8 R5/B2 (in) "pin assignment depends on SWAP pin setting", B9 R7/B0 (in) "pin assignment depends on SWAP pin setting", C1 B6/R1 (in) "pin assignment depends on SWAP pin setting", C2 B7/R0 (in) "pin assignment depends on SWAP pin setting", C9 LS0 (in) "Link Select (Determines active SubLVDS Data Links and PLL Range)", D1 B4/R3 (in) "pin assignment depends on SWAP pin setting", D2 B5/R2 (in) "pin assignment depends on SWAP pin setting", D8 LS1 (in) "Link Select (Determines active SubLVDS Data Links and PLL Range)", D9 D2+ (hiz) "SubLVDS Data Link (active during normal operation when LS0 = low and LS1 = high,high-impedance when LS1 = low)", E1 B3/R4 (in) "pin assignment depends on SWAP pin setting", E9 D2- (hiz) "SubLVDS Data Link (active during normal operation when LS0 = low and LS1 = high,high-impedance when LS1 = low)", F1 B1/R6 (in) "pin assignment depends on SWAP pin setting", F2 B2/R5 (in) "pin assignment depends on SWAP pin setting", F9 D1+ (hiz) "SubLVDS Data Link (active during normal operation when LS0 = high and LS1 = low, or LS0 = low and LS1=high; high impedance if LS0 = LS1 = low)", G1 PCLK (in) "Input Pixel Clock; rising or falling clock polarity is selected by control input CPOL", G2 B0/R7 (in) "pin assignment depends on SWAP pin setting", G9 D1- (hiz) "SubLVDS Data Link (active during normal operation when LS0 = high and LS1 = low, or LS0 = low and LS1=high; high impedance if LS0 = LS1 = low)", H1 HS (in) "Horizontal Sync", H2 VS (in) "Vertical Sync", H9 CPOL (in) "Input Clock Polarity Selection 0 - rising edge clocking1 - falling edge clocking", J2 DE (in) "Data Enable", J3 TXEN (in) "Disables the CMOS Drivers and Turns Off the PLL, putting device in shutdown mode 1 - Transmitter enabled 0 - Transmitter disabled", J4 D0- (hiz) "SubLVDS Data Link (active during normal operation)", J5 D0+ (hiz) "SubLVDS Data Link (active during normal operation)", J6 CLK- (hiz) "SubLVDS output Clock; clock polarity is fixed", J7 CLK+ (hiz) "SubLVDS output Clock; clock polarity is fixed", J8 SWAP (in) "Bus Swap swaps the bus pins to allow device placement on top or bottom of pcb. See pinout drawing for pin assignments."
part B pins: A1 GND (power) "Supply Ground", A9 GND (power) "Supply Ground", C4 VDD (power) "Supply Voltage", C5 GND (power) "Supply Ground", C6 VDD (power) "Supply Voltage", C7 VDD (power) "Supply Voltage", C8 GND (power) "Supply Ground", D3 VDD (power) "Supply Voltage", D4 GND (power) "Supply Ground", D5 GND (power) "Supply Ground", D6 GND (power) "Supply Ground", D7 GND (power) "Supply Ground", E2 GND (power) "Supply Ground", E3 VDD (power) "Supply Voltage", E4 GND (power) "Supply Ground", E5 GND (power) "Supply Ground", E6 GND (power) "Supply Ground", E7 GND (power) "Supply Ground", E8 GNDPLLD (power) "PLL digital GND", F3 VDD (power) "Supply Voltage", F4 GND (power) "Supply Ground", F5 GND (power) "Supply Ground", F6 GND (power) "Supply Ground", F7 GND (power) "Supply Ground", F8 VDDPLLD (power) "PLL analog supply Voltage", G3 VDD (power) "Supply Voltage", G4 GND (power) "Supply Ground", G5 GND (power) "Supply Ground", G6 GND (power) "Supply Ground", G7 GND (power) "Supply Ground", G8 GNDLVDS (power) "SubLVDS Ground", H3 GND (power) "Supply Ground", H4 GNDLVDS (power) "SubLVDS Ground", H5 VDDLVDS (power) "SubLVDS I/O supply Voltage", H6 GNDPLLA (power) "PLL analog GND", H7 VDDPLLA (power) "PLL analog supply Voltage", H8 VDDLVDS (power) "SubLVDS I/O supply Voltage", J1 GND (power) "Supply Ground", J9 GNDLVDS (power) "SubLVDS Ground"